# Altium schematic symbol library icl7107pins.SchLib: 4 symbols
Pins are listed as number, name and electrical type; pins without a type are passive.

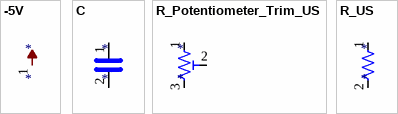
[diagram p0: symbols -5V to R_US]

## -5V
designator *
pins: 1 -5V (power)

## C
designator *
pins: 1, 2

## R_Potentiometer_Trim_US
designator *
pins: 1, 2, 3

## R_US
designator *
pins: 1, 2